# EAGLE library part SP724AHTG (library Littelfuse_By_element14_Batch_1)
TVS Diode Array
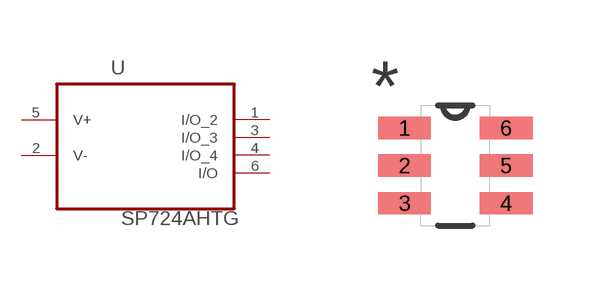
[diagram p4: symbol with the pads of SOT95P280X145-6N; footprint SOT95P280X145-6N]

Designator prefix U

## SP724AHTG (MPN: SP724AHTG; OC_FARNELL: 1785542; OC_NEWARK: 08N5580; PACKAGE: SOT-23-6; SUPPLIER: Littelfuse)  [SOT95P280X145-6N]
1  I/O_2
2  V-  pwr
3  I/O_3
4  I/O_4
5  V+  pwr
6  I/O

## Footprint SOT95P280X145-6N (pad centres in mm)
smd 1.321 x 0.559: 1 -1.27,0.94; 2 -1.27,0; 3 -1.27,-0.94; 4 1.27,-0.94; 5 1.27,0; 6 1.27,0.94